# Altium footprint library MOLEX.1.PcbLib: 1 footprints
Each footprint in its own frame and in the unit in brackets; x right, y up, seen from the top. Pads: shape width x height; smd on the part's side, far side on the other; paste and mask are expansions set on the pad; w line width, h text height; cw(c..) or ccw(c..) is an arc to the next point about the centre after c.
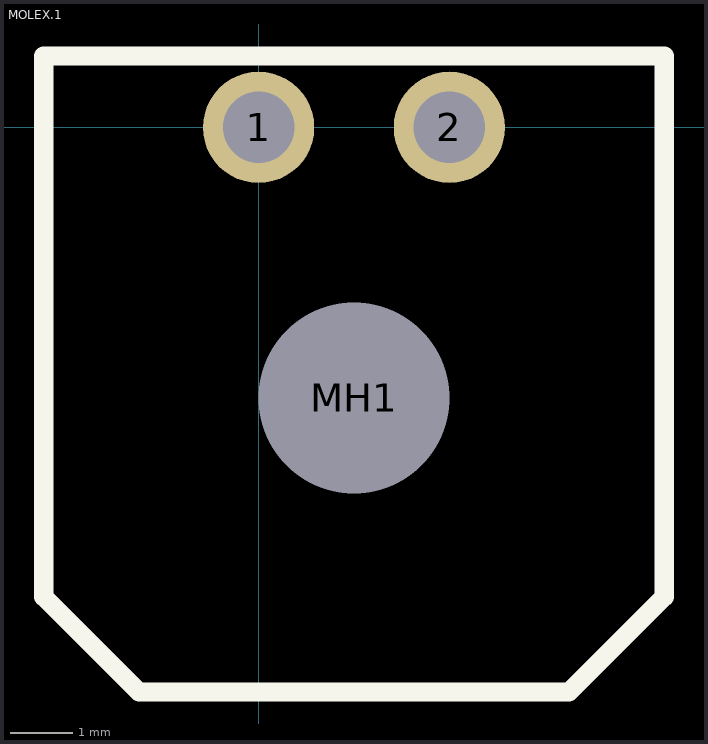
[diagram p0: the footprint, top view; thin cyan lines are the x and y axes]

## MOLEX.1 [mil]
pads (3):
  round 70 hole 45: 1(0,0) 2(120,0)
  round 70 hole 120: MH1(60,-170)
Top Overlay:
  lines w12: -135,-295 -75,-355 195,-355 255,-295 255,45 -135,45 -135,-295
Mechanical 4:
  text "0.175" at 0,0 h1
3D body: height 219.89, standoff -129.32, extent -129.96,-349.88 249.97,39.89